# Altium footprint library SON127P570X100_HS-9N.PcbLib: 1 footprints
Each footprint in its own frame and in the unit in brackets; x right, y up, seen from the top. Pads: shape width x height; smd on the part's side, far side on the other; paste and mask are expansions set on the pad; w line width, h text height; cw(c..) or ccw(c..) is an arc to the next point about the centre after c.
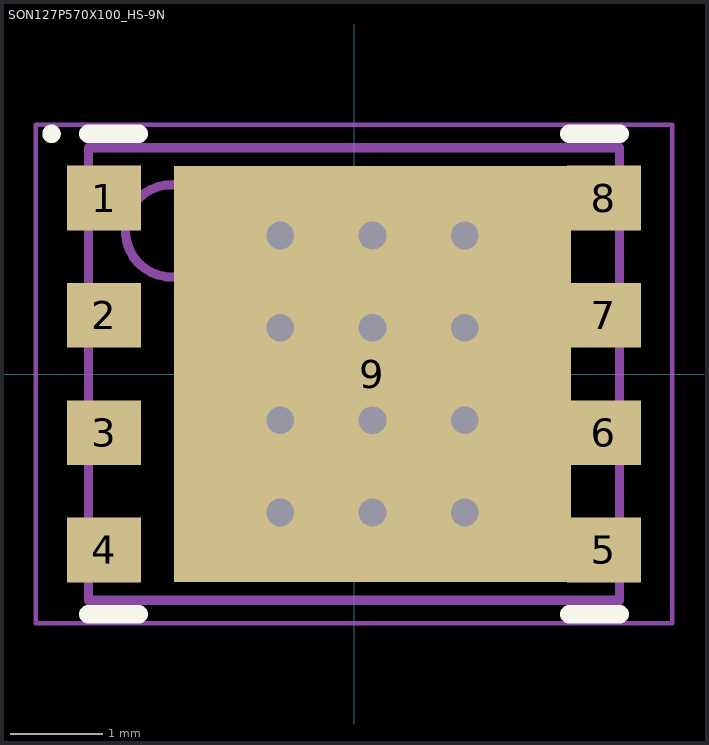
[diagram p0: the footprint, top view; thin cyan lines are the x and y axes]

## SON127P570X100_HS-9N [mm] "SON, 8-Leads, Body 4,85x5,72mm, Pitch 1,27mm, Thermal Pad 3,82x3,48mm, IPC Medium Density"
height 1
pads (9):
  rect 0.8x0.7 smd: 1(-2.705,1.905) 2(-2.705,0.635) 3(-2.705,-0.635) 4(-2.705,-1.905) 5(2.705,-1.905) 6(2.705,-0.635) 7(2.705,0.635) 8(2.705,1.905)
  rect 4.3x4.5 smd paste-1.74: 9(0.2,0)
via 1.2,-1.5 diameter 0.6 hole 0.3
via 0.2,-1.5 diameter 0.6 hole 0.3
via -0.8,-1.5 diameter 0.6 hole 0.3
via 1.2,-0.5 diameter 0.6 hole 0.3
via 0.2,-0.5 diameter 0.6 hole 0.3
via -0.8,-0.5 diameter 0.6 hole 0.3
via 1.2,0.5 diameter 0.6 hole 0.3
via 0.2,0.5 diameter 0.6 hole 0.3
via -0.8,0.5 diameter 0.6 hole 0.3
via 1.2,1.5 diameter 0.6 hole 0.3
via 0.2,1.5 diameter 0.6 hole 0.3
via -0.8,1.5 diameter 0.6 hole 0.3
Top Overlay:
  circle w0.1: c-3.275,2.6 r0.05
  lines w0.2: -2.875,-2.6 -2.33,-2.6 ; -2.875,2.6 -2.33,2.6 ; 2.33,-2.6 2.875,-2.6 ; 2.33,2.6 2.875,2.6
Top Paste:
  rectangle: 0.68,-1.805 1.64,-0.735
  rectangle: 0.68,-0.535 1.64,0.535
  rectangle: 0.68,0.735 1.64,1.805
  rectangle: -0.48,-1.805 0.48,-0.735
  rectangle: -0.48,-0.535 0.48,0.535
  rectangle: -0.48,0.735 0.48,1.805
  rectangle: -1.64,-1.805 -0.68,-0.735
  rectangle: -1.64,-0.535 -0.68,0.535
  rectangle: -1.64,0.735 -0.68,1.805
Mechanical 2:
  circle w0.1: c-1.975,1.55 r0.5
  lines w0.1: -2.875,-2.45 2.875,-2.45 2.875,2.45 -2.875,2.45 -2.875,-2.45
Mechanical 4:
  lines w0.05: -3.445,-2.7 3.445,-2.7 3.445,2.7 -3.445,2.7 -3.445,-2.7
  lines w0.1: -0.5,0 0.5,0 ; 0,-0.5 0,0.5
3D body "SON127P570X100_HS-9N.step": height 1, standoff 0, extent -3.125,-2.45 3.125,2.45